# Altium footprint library PCB - LEADED - SMB.PCBLIB: 1 footprints
Each footprint in its own frame and in the unit in brackets; x right, y up, seen from the top. Pads: shape width x height; smd on the part's side, far side on the other; paste and mask are expansions set on the pad; w line width, h text height; cw(c..) or ccw(c..) is an arc to the next point about the centre after c.
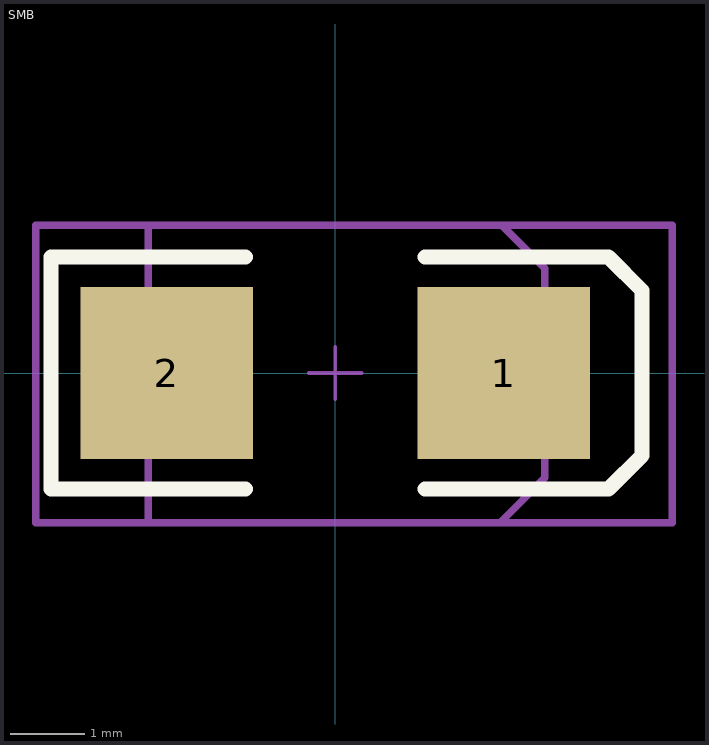
[diagram p0: the footprint, top view; thin cyan lines are the x and y axes]

## SMB [mm] "DO-214-AA/SMB; 2 C-Bend Leads; Body 5.3 x 3.6 mm, inc. leads (LxW)"
height 2.54
pads (2):
  rect 2.3x2.3 smd: 1(2.25,0) 2(-2.25,0)
Top Overlay:
  lines w0.2: -1.2,-1.55 -3.8,-1.55 -3.8,1.55 -1.2,1.55 ; 1.2,-1.55 3.65,-1.55 4.1,-1.1 4.1,1.1 3.65,1.55 1.2,1.55
Top Assembly:
  lines w0.1: -2.5,-2 -2.5,1.975 2.225,1.975 2.8,1.4 2.8,-1.4 2.2,-2 -2.5,-2
Top Courtyard:
  lines w0.1: -4,-2 -4,1.975 4.5,1.975 4.5,-2 -4,-2
Top Designator:
  text ".Designator" at -1.824,-0.8 h1.52
Top Component Center:
  lines w0.05: -0.35,0 0.35,0 ; 0,-0.35 0,0.35
3D body "DIOM4336X25N.step": height 2.47, standoff 0, extent -2.52,-1.975 2.52,1.975